# Altium integrated library Newport Power Mgt DC-DC Converter.IntLib: 312 symbols (part 5 of 5)
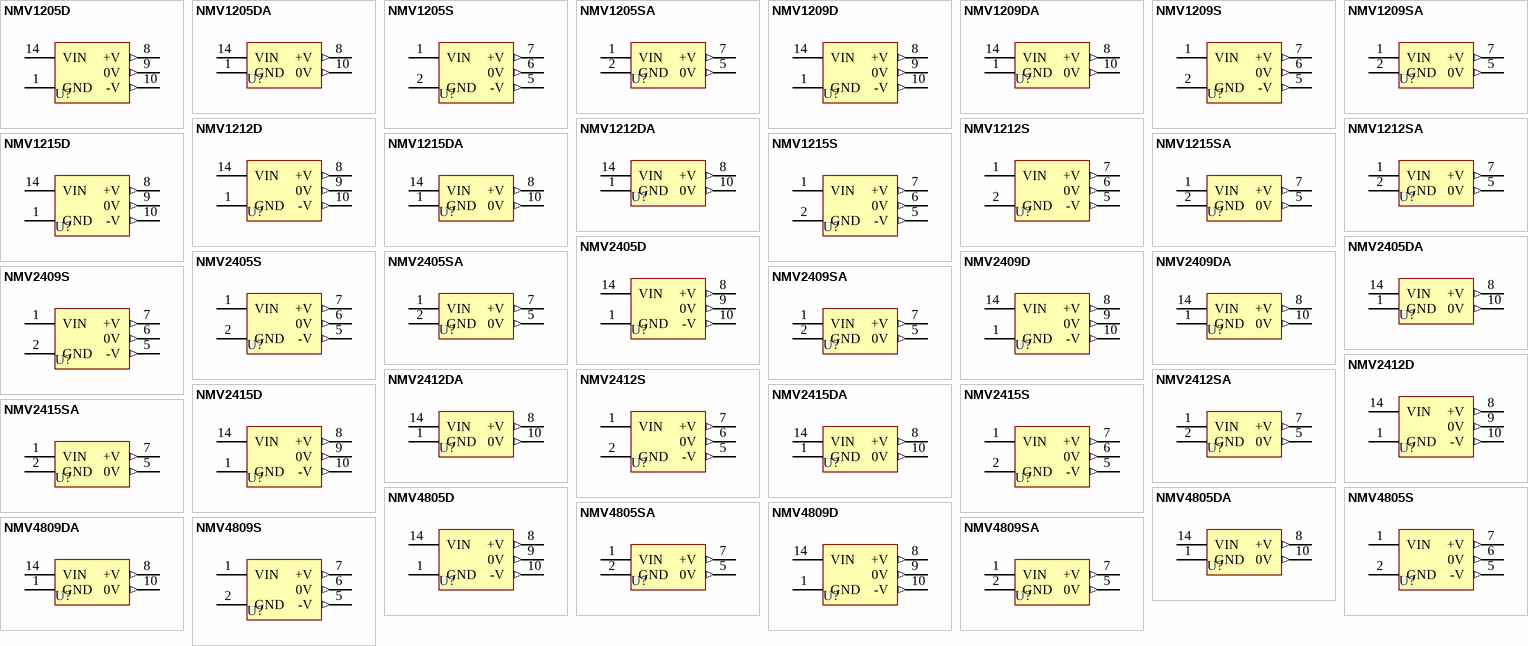
[diagram p11: symbols NMV1205D to NMV4809SA]

## NMV1215DA
designator U?
3kVDC Isolated 1W Single Output; Note: Pin 7 is No Internal Connection (NC) pin and is not drawn. Pins 2-6, 9, 12 and 13 are not present.; Published: 8-Jun-2000; LatestRevisionDate: 17-Jul-2002; LatestRevisionNote: PCB footprint, 'DIP-P5(14)/X1.2' replaced; Re-released for DXP Platform.; DatasheetVersion: Jul-1996; PackageVersion: 1996; PackageReference: NPDIP14D1; Publisher: Altium Limited; PackageDescription: DIP; 14 Rectangular pins (9 Absent); Row Space 7.62 mm; Pitch 2.54 mm; ComponentLink1Description: Manufacturer Link; ComponentLink1URL: http://www.dc-dc.com/; ComponentLink2Description: Datasheet; ComponentLink2URL: http://www.cd4power.com/data/power/ncl/ndc_nmv_3.pdf
footprint NPDIP14D1 (DIP; 14 Rectangular pins (9 Absent); Row Space 7.62 mm; Pitch 2.54 mm)
pins: 1 GND (power), 8 +V (out), 10 0V (out), 14 VIN (power)

## NMV1215S
designator U?
3kVDC Isolated 1W Dual Output; Note: Pins 3 and 4 are not present.; Published: 8-Jun-2000; LatestRevisionDate: 17-Jul-2002; LatestRevisionNote: Re-released for DXP Platform.; DatasheetVersion: Jul-1996; PackageVersion: 1996; PackageReference: NPSIP7D7; Publisher: Altium Limited; PackageDescription: SIP; 7 Leads (2 Absent); Body 19.5 x 6 mm (LxW typ); Pitch 2.54 mm; ComponentLink1Description: Manufacturer Link; ComponentLink1URL: http://www.dc-dc.com/; ComponentLink2Description: Datasheet; ComponentLink2URL: http://www.cd4power.com/data/power/ncl/ndc_nmv_3.pdf
footprint NPSIP7D7 (SIP; 7 Leads (2 Absent); Body 19.5 x 6 mm (LxW typ); Pitch 2.54 mm)
pins: 1 VIN (power), 2 GND (power), 5 -V (out), 6 0V (out), 7 +V (out)

## NMV1215SA
designator U?
3kVDC Isolated 1W Single Output; Note: Pins 3, 4 and 6 are not present.; Published: 8-Jun-2000; LatestRevisionDate: 17-Jul-2002; LatestRevisionNote: Re-released for DXP Platform.; DatasheetVersion: Jul-1996; PackageVersion: 1996; PackageReference: NPSIP7C5; Publisher: Altium Limited; PackageDescription: SIP; 7 Leads (3 Absent); Body 19.5 x 6 mm (LxW typ); Pitch 2.54 mm; ComponentLink1Description: Manufacturer Link; ComponentLink1URL: http://www.dc-dc.com/; ComponentLink2Description: Datasheet; ComponentLink2URL: http://www.cd4power.com/data/power/ncl/ndc_nmv_3.pdf
footprint NPSIP7C5 (SIP; 7 Leads (3 Absent); Body 19.5 x 6 mm (LxW typ); Pitch 2.54 mm)
pins: 1 VIN (power), 2 GND (power), 5 0V (out), 7 +V (out)

## NMV2405D
designator U?
3kVDC Isolated 1W Dual Output; Note: Pin 7 is No Internal Connection (NC) pin and is not drawn. Pins 2-6, 11, 12 and 13 are not present.; Published: 8-Jun-2000; LatestRevisionDate: 17-Jul-2002; LatestRevisionNote: Re-released for DXP Platform.; DatasheetVersion: Jul-1996; PackageVersion: 1996; PackageReference: NPDIP14E3; Publisher: Altium Limited; PackageDescription: DIP; 14 Rectangular pins (8 Absent); Row Space 7.62 mm; Pitch 2.54 mm; ComponentLink1Description: Manufacturer Link; ComponentLink1URL: http://www.dc-dc.com/; ComponentLink2Description: Datasheet; ComponentLink2URL: http://www.cd4power.com/data/power/ncl/ndc_nmv2_3.pdf
footprint NPDIP14E3 (DIP; 14 Rectangular pins (8 Absent); Row Space 7.62 mm; Pitch 2.54 mm)
pins: 1 GND (power), 8 +V (out), 9 0V (out), 10 -V (out), 14 VIN (power)

## NMV2405DA
designator U?
3kVDC Isolated 1W Single Output; Note: Pin 7 is No Internal Connection (NC) pin and is not drawn. Pins 2-6, 9, 12 and 13 are not present.; Published: 8-Jun-2000; LatestRevisionDate: 17-Jul-2002; LatestRevisionNote: PCB footprint, 'DIP-P5(14)/X1.2' replaced; Re-released for DXP Platform.; DatasheetVersion: Jul-1996; PackageVersion: 1996; PackageReference: NPDIP14D1; Publisher: Altium Limited; PackageDescription: DIP; 14 Rectangular pins (9 Absent); Row Space 7.62 mm; Pitch 2.54 mm; ComponentLink1Description: Manufacturer Link; ComponentLink1URL: http://www.dc-dc.com/; ComponentLink2Description: Datasheet; ComponentLink2URL: http://www.cd4power.com/data/power/ncl/ndc_nmv2_3.pdf
footprint NPDIP14D1 (DIP; 14 Rectangular pins (9 Absent); Row Space 7.62 mm; Pitch 2.54 mm)
pins: 1 GND (power), 8 +V (out), 10 0V (out), 14 VIN (power)

## NMV2405S
designator U?
3kVDC Isolated 1W Dual Output; Note: Pins 3 and 4 are not present.; Published: 8-Jun-2000; LatestRevisionDate: 17-Jul-2002; LatestRevisionNote: Re-released for DXP Platform.; DatasheetVersion: Jul-1996; PackageVersion: 1996; PackageReference: NPSIP7D7; Publisher: Altium Limited; PackageDescription: SIP; 7 Leads (2 Absent); Body 19.5 x 6 mm (LxW typ); Pitch 2.54 mm; ComponentLink1Description: Manufacturer Link; ComponentLink1URL: http://www.dc-dc.com/; ComponentLink2Description: Datasheet; ComponentLink2URL: http://www.cd4power.com/data/power/ncl/ndc_nmv2_3.pdf
footprint NPSIP7D7 (SIP; 7 Leads (2 Absent); Body 19.5 x 6 mm (LxW typ); Pitch 2.54 mm)
pins: 1 VIN (power), 2 GND (power), 5 -V (out), 6 0V (out), 7 +V (out)

## NMV2405SA
designator U?
3kVDC Isolated 1W Single Output; Note: Pins 3, 4 and 6 are not present.; Published: 8-Jun-2000; LatestRevisionDate: 17-Jul-2002; LatestRevisionNote: Re-released for DXP Platform.; DatasheetVersion: Jul-1996; PackageVersion: 1996; PackageReference: NPSIP7C5; Publisher: Altium Limited; PackageDescription: SIP; 7 Leads (3 Absent); Body 19.5 x 6 mm (LxW typ); Pitch 2.54 mm; ComponentLink1Description: Manufacturer Link; ComponentLink1URL: http://www.dc-dc.com/; ComponentLink2Description: Datasheet; ComponentLink2URL: http://www.cd4power.com/data/power/ncl/ndc_nmv2_3.pdf
footprint NPSIP7C5 (SIP; 7 Leads (3 Absent); Body 19.5 x 6 mm (LxW typ); Pitch 2.54 mm)
pins: 1 VIN (power), 2 GND (power), 5 0V (out), 7 +V (out)

## NMV2409D
designator U?
3kVDC Isolated 1W Dual Output; Note: Pin 7 is No Internal Connection (NC) pin and is not drawn. Pins 2-6, 11, 12 and 13 are not present.; Published: 8-Jun-2000; LatestRevisionDate: 17-Jul-2002; LatestRevisionNote: Re-released for DXP Platform.; DatasheetVersion: Jul-1996; PackageVersion: 1996; PackageReference: NPDIP14E3; Publisher: Altium Limited; PackageDescription: DIP; 14 Rectangular pins (8 Absent); Row Space 7.62 mm; Pitch 2.54 mm; ComponentLink1Description: Manufacturer Link; ComponentLink1URL: http://www.dc-dc.com/; ComponentLink2Description: Datasheet; ComponentLink2URL: http://www.cd4power.com/data/power/ncl/ndc_nmv2_3.pdf
footprint NPDIP14E3 (DIP; 14 Rectangular pins (8 Absent); Row Space 7.62 mm; Pitch 2.54 mm)
pins: 1 GND (power), 8 +V (out), 9 0V (out), 10 -V (out), 14 VIN (power)

## NMV2409DA
designator U?
3kVDC Isolated 1W Single Output; Note: Pin 7 is No Internal Connection (NC) pin and is not drawn. Pins 2-6, 9, 12 and 13 are not present.; Published: 8-Jun-2000; LatestRevisionDate: 17-Jul-2002; LatestRevisionNote: PCB footprint, 'DIP-P5(14)/X1.2' replaced; Re-released for DXP Platform.; DatasheetVersion: Jul-1996; PackageVersion: 1996; PackageReference: NPDIP14D1; Publisher: Altium Limited; PackageDescription: DIP; 14 Rectangular pins (9 Absent); Row Space 7.62 mm; Pitch 2.54 mm; ComponentLink1Description: Manufacturer Link; ComponentLink1URL: http://www.dc-dc.com/; ComponentLink2Description: Datasheet; ComponentLink2URL: http://www.cd4power.com/data/power/ncl/ndc_nmv2_3.pdf
footprint NPDIP14D1 (DIP; 14 Rectangular pins (9 Absent); Row Space 7.62 mm; Pitch 2.54 mm)
pins: 1 GND (power), 8 +V (out), 10 0V (out), 14 VIN (power)

## NMV2409S
designator U?
3kVDC Isolated 1W Dual Output; Note: Pins 3 and 4 are not present.; Published: 8-Jun-2000; LatestRevisionDate: 17-Jul-2002; LatestRevisionNote: Re-released for DXP Platform.; DatasheetVersion: Jul-1996; PackageVersion: 1996; PackageReference: NPSIP7D7; Publisher: Altium Limited; PackageDescription: SIP; 7 Leads (2 Absent); Body 19.5 x 6 mm (LxW typ); Pitch 2.54 mm; ComponentLink1Description: Manufacturer Link; ComponentLink1URL: http://www.dc-dc.com/; ComponentLink2Description: Datasheet; ComponentLink2URL: http://www.cd4power.com/data/power/ncl/ndc_nmv2_3.pdf
footprint NPSIP7D7 (SIP; 7 Leads (2 Absent); Body 19.5 x 6 mm (LxW typ); Pitch 2.54 mm)
pins: 1 VIN (power), 2 GND (power), 5 -V (out), 6 0V (out), 7 +V (out)

## NMV2409SA
designator U?
3kVDC Isolated 1W Single Output; Note: Pins 3, 4 and 6 are not present.; Published: 8-Jun-2000; LatestRevisionDate: 17-Jul-2002; LatestRevisionNote: Re-released for DXP Platform.; DatasheetVersion: Jul-1996; PackageVersion: 1996; PackageReference: NPSIP7C5; Publisher: Altium Limited; PackageDescription: SIP; 7 Leads (3 Absent); Body 19.5 x 6 mm (LxW typ); Pitch 2.54 mm; ComponentLink1Description: Manufacturer Link; ComponentLink1URL: http://www.dc-dc.com/; ComponentLink2Description: Datasheet; ComponentLink2URL: http://www.cd4power.com/data/power/ncl/ndc_nmv2_3.pdf
footprint NPSIP7C5 (SIP; 7 Leads (3 Absent); Body 19.5 x 6 mm (LxW typ); Pitch 2.54 mm)
pins: 1 VIN (power), 2 GND (power), 5 0V (out), 7 +V (out)

## NMV2412D
designator U?
3kVDC Isolated 1W Dual Output; Note: Pin 7 is No Internal Connection (NC) pin and is not drawn. Pins 2-6, 11, 12 and 13 are not present.; Published: 8-Jun-2000; LatestRevisionDate: 17-Jul-2002; LatestRevisionNote: Re-released for DXP Platform.; DatasheetVersion: Jul-1996; PackageVersion: 1996; PackageReference: NPDIP14E3; Publisher: Altium Limited; PackageDescription: DIP; 14 Rectangular pins (8 Absent); Row Space 7.62 mm; Pitch 2.54 mm; ComponentLink1Description: Manufacturer Link; ComponentLink1URL: http://www.dc-dc.com/; ComponentLink2Description: Datasheet; ComponentLink2URL: http://www.cd4power.com/data/power/ncl/ndc_nmv2_3.pdf
footprint NPDIP14E3 (DIP; 14 Rectangular pins (8 Absent); Row Space 7.62 mm; Pitch 2.54 mm)
pins: 1 GND (power), 8 +V (out), 9 0V (out), 10 -V (out), 14 VIN (power)

## NMV2412DA
designator U?
3kVDC Isolated 1W Single Output; Note: Pin 7 is No Internal Connection (NC) pin and is not drawn. Pins 2-6, 9, 12 and 13 are not present.; Published: 8-Jun-2000; LatestRevisionDate: 17-Jul-2002; LatestRevisionNote: PCB footprint, 'DIP-P5(14)/X1.2' replaced; Re-released for DXP Platform.; DatasheetVersion: Jul-1996; PackageVersion: 1996; PackageReference: NPDIP14D1; Publisher: Altium Limited; PackageDescription: DIP; 14 Rectangular pins (9 Absent); Row Space 7.62 mm; Pitch 2.54 mm; ComponentLink1Description: Manufacturer Link; ComponentLink1URL: http://www.dc-dc.com/; ComponentLink2Description: Datasheet; ComponentLink2URL: http://www.cd4power.com/data/power/ncl/ndc_nmv2_3.pdf
footprint NPDIP14D1 (DIP; 14 Rectangular pins (9 Absent); Row Space 7.62 mm; Pitch 2.54 mm)
pins: 1 GND (power), 8 +V (out), 10 0V (out), 14 VIN (power)

## NMV2412S
designator U?
3kVDC Isolated 1W Dual Output; Note: Pins 3 and 4 are not present.; Published: 8-Jun-2000; LatestRevisionDate: 17-Jul-2002; LatestRevisionNote: Re-released for DXP Platform.; DatasheetVersion: Jul-1996; PackageVersion: 1996; PackageReference: NPSIP7D7; Publisher: Altium Limited; PackageDescription: SIP; 7 Leads (2 Absent); Body 19.5 x 6 mm (LxW typ); Pitch 2.54 mm; ComponentLink1Description: Manufacturer Link; ComponentLink1URL: http://www.dc-dc.com/; ComponentLink2Description: Datasheet; ComponentLink2URL: http://www.cd4power.com/data/power/ncl/ndc_nmv2_3.pdf
footprint NPSIP7D7 (SIP; 7 Leads (2 Absent); Body 19.5 x 6 mm (LxW typ); Pitch 2.54 mm)
pins: 1 VIN (power), 2 GND (power), 5 -V (out), 6 0V (out), 7 +V (out)

## NMV2412SA
designator U?
3kVDC Isolated 1W Single Output; Note: Pins 3, 4 and 6 are not present.; Published: 8-Jun-2000; LatestRevisionDate: 17-Jul-2002; LatestRevisionNote: Re-released for DXP Platform.; DatasheetVersion: Jul-1996; PackageVersion: 1996; PackageReference: NPSIP7C5; Publisher: Altium Limited; PackageDescription: SIP; 7 Leads (3 Absent); Body 19.5 x 6 mm (LxW typ); Pitch 2.54 mm; ComponentLink1Description: Manufacturer Link; ComponentLink1URL: http://www.dc-dc.com/; ComponentLink2Description: Datasheet; ComponentLink2URL: http://www.cd4power.com/data/power/ncl/ndc_nmv2_3.pdf
footprint NPSIP7C5 (SIP; 7 Leads (3 Absent); Body 19.5 x 6 mm (LxW typ); Pitch 2.54 mm)
pins: 1 VIN (power), 2 GND (power), 5 0V (out), 7 +V (out)

## NMV2415D
designator U?
3kVDC Isolated 1W Dual Output; Note: Pin 7 is No Internal Connection (NC) pin and is not drawn. Pins 2-6, 11, 12 and 13 are not present.; Published: 8-Jun-2000; LatestRevisionDate: 17-Jul-2002; LatestRevisionNote: Re-released for DXP Platform.; DatasheetVersion: Jul-1996; PackageVersion: 1996; PackageReference: NPDIP14E3; Publisher: Altium Limited; PackageDescription: DIP; 14 Rectangular pins (8 Absent); Row Space 7.62 mm; Pitch 2.54 mm; ComponentLink1Description: Manufacturer Link; ComponentLink1URL: http://www.dc-dc.com/; ComponentLink2Description: Datasheet; ComponentLink2URL: http://www.cd4power.com/data/power/ncl/ndc_nmv2_3.pdf
footprint NPDIP14E3 (DIP; 14 Rectangular pins (8 Absent); Row Space 7.62 mm; Pitch 2.54 mm)
pins: 1 GND (power), 8 +V (out), 9 0V (out), 10 -V (out), 14 VIN (power)

## NMV2415DA
designator U?
3kVDC Isolated 1W Single Output; Note: Pin 7 is No Internal Connection (NC) pin and is not drawn. Pins 2-6, 9, 12 and 13 are not present.; Published: 8-Jun-2000; LatestRevisionDate: 17-Jul-2002; LatestRevisionNote: PCB footprint, 'DIP-P5(14)/X1.2' replaced; Re-released for DXP Platform.; DatasheetVersion: Jul-1996; PackageVersion: 1996; PackageReference: NPDIP14D1; Publisher: Altium Limited; PackageDescription: DIP; 14 Rectangular pins (9 Absent); Row Space 7.62 mm; Pitch 2.54 mm; ComponentLink1Description: Manufacturer Link; ComponentLink1URL: http://www.dc-dc.com/; ComponentLink2Description: Datasheet; ComponentLink2URL: http://www.cd4power.com/data/power/ncl/ndc_nmv2_3.pdf
footprint NPDIP14D1 (DIP; 14 Rectangular pins (9 Absent); Row Space 7.62 mm; Pitch 2.54 mm)
pins: 1 GND (power), 8 +V (out), 10 0V (out), 14 VIN (power)

## NMV2415S
designator U?
3kVDC Isolated 1W Dual Output; Note: Pins 3 and 4 are not present.; Published: 8-Jun-2000; LatestRevisionDate: 17-Jul-2002; LatestRevisionNote: Re-released for DXP Platform.; DatasheetVersion: Jul-1996; PackageVersion: 1996; PackageReference: NPSIP7D7; Publisher: Altium Limited; PackageDescription: SIP; 7 Leads (2 Absent); Body 19.5 x 6 mm (LxW typ); Pitch 2.54 mm; ComponentLink1Description: Manufacturer Link; ComponentLink1URL: http://www.dc-dc.com/; ComponentLink2Description: Datasheet; ComponentLink2URL: http://www.cd4power.com/data/power/ncl/ndc_nmv2_3.pdf
footprint NPSIP7D7 (SIP; 7 Leads (2 Absent); Body 19.5 x 6 mm (LxW typ); Pitch 2.54 mm)
pins: 1 VIN (power), 2 GND (power), 5 -V (out), 6 0V (out), 7 +V (out)

## NMV2415SA
designator U?
3kVDC Isolated 1W Single Output; Note: Pins 3, 4 and 6 are not present.; Published: 8-Jun-2000; LatestRevisionDate: 17-Jul-2002; LatestRevisionNote: Re-released for DXP Platform.; DatasheetVersion: Jul-1996; PackageVersion: 1996; PackageReference: NPSIP7C5; Publisher: Altium Limited; PackageDescription: SIP; 7 Leads (3 Absent); Body 19.5 x 6 mm (LxW typ); Pitch 2.54 mm; ComponentLink1Description: Manufacturer Link; ComponentLink1URL: http://www.dc-dc.com/; ComponentLink2Description: Datasheet; ComponentLink2URL: http://www.cd4power.com/data/power/ncl/ndc_nmv2_3.pdf
footprint NPSIP7C5 (SIP; 7 Leads (3 Absent); Body 19.5 x 6 mm (LxW typ); Pitch 2.54 mm)
pins: 1 VIN (power), 2 GND (power), 5 0V (out), 7 +V (out)

## NMV4805D
designator U?
3kVDC Isolated 1W Dual Output; Note: Pin 7 is No Internal Connection (NC) pin and is not drawn. Pins 2-6, 11, 12 and 13 are not present.; Published: 8-Jun-2000; LatestRevisionDate: 17-Jul-2002; LatestRevisionNote: Re-released for DXP Platform.; DatasheetVersion: Jul-1996; PackageVersion: 1996; PackageReference: NPDIP14E4; Publisher: Altium Limited; PackageDescription: DIP; 14 Rectangular pins (8 Absent); Row Space 7.62 mm; Pitch 2.54 mm; ComponentLink1Description: Manufacturer Link; ComponentLink1URL: http://www.dc-dc.com/; ComponentLink2Description: Datasheet; ComponentLink2URL: http://www.cd4power.com/data/power/ncl/ndc_nmv2_3.pdf
footprint NPDIP14E4 (DIP; 14 Rectangular pins (8 Absent); Row Space 7.62 mm; Pitch 2.54 mm)
pins: 1 GND (power), 8 +V (out), 9 0V (out), 10 -V (out), 14 VIN (power)

## NMV4805DA
designator U?
3kVDC Isolated 1W Single Output; Note: Pin 7 is No Internal Connection (NC) pin and is not drawn. Pins 2-6, 9, 12 and 13 are not present.; Published: 8-Jun-2000; LatestRevisionDate: 17-Jul-2002; LatestRevisionNote: PCB footprint, 'DIP-P5(14)/X1.2' replaced; Re-released for DXP Platform.; DatasheetVersion: Jul-1996; PackageVersion: 1996; PackageReference: NPDIP14D2; Publisher: Altium Limited; PackageDescription: DIP; 14 Rectangular pins (9 Absent); Row Space 7.62 mm; Pitch 2.54 mm; ComponentLink1Description: Manufacturer Link; ComponentLink1URL: http://www.dc-dc.com/; ComponentLink2Description: Datasheet; ComponentLink2URL: http://www.cd4power.com/data/power/ncl/ndc_nmv2_3.pdf
footprint NPDIP14D2 (DIP; 14 Rectangular pins (9 Absent); Row Space 7.62 mm; Pitch 2.54 mm)
pins: 1 GND (power), 8 +V (out), 10 0V (out), 14 VIN (power)

## NMV4805S
designator U?
3kVDC Isolated 1W Dual Output; Note: Pins 3 and 4 are not present.; Published: 8-Jun-2000; LatestRevisionDate: 17-Jul-2002; LatestRevisionNote: Re-released for DXP Platform.; DatasheetVersion: Jul-1996; PackageVersion: 1996; PackageReference: NPSIP7D8; Publisher: Altium Limited; PackageDescription: SIP; 7 Leads (2 Absent); Body 19.5 x 7.5 mm (LxW typ); Pitch 2.54 mm; ComponentLink1Description: Manufacturer Link; ComponentLink1URL: http://www.dc-dc.com/; ComponentLink2Description: Datasheet; ComponentLink2URL: http://www.cd4power.com/data/power/ncl/ndc_nmv2_3.pdf
footprint NPSIP7D8 (SIP; 7 Leads (2 Absent); Body 19.5 x 7.5 mm (LxW typ); Pitch 2.54 mm)
pins: 1 VIN (power), 2 GND (power), 5 -V (out), 6 0V (out), 7 +V (out)

## NMV4805SA
designator U?
3kVDC Isolated 1W Single Output; Note: Pins 3, 4 and 6 are not present.; Published: 8-Jun-2000; LatestRevisionDate: 17-Jul-2002; LatestRevisionNote: Re-released for DXP Platform.; DatasheetVersion: Jul-1996; PackageVersion: 1996; PackageReference: NPSIP7C6; Publisher: Altium Limited; PackageDescription: SIP; 7 Leads (3 Absent); Body 19.5 x 7.5 mm (LxW typ); Pitch 2.54 mm; ComponentLink1Description: Manufacturer Link; ComponentLink1URL: http://www.dc-dc.com/; ComponentLink2Description: Datasheet; ComponentLink2URL: http://www.cd4power.com/data/power/ncl/ndc_nmv2_3.pdf
footprint NPSIP7C6 (SIP; 7 Leads (3 Absent); Body 19.5 x 7.5 mm (LxW typ); Pitch 2.54 mm)
pins: 1 VIN (power), 2 GND (power), 5 0V (out), 7 +V (out)

## NMV4809D
designator U?
3kVDC Isolated 1W Dual Output; Note: Pin 7 is No Internal Connection (NC) pin and is not drawn. Pins 2-6, 11, 12 and 13 are not present.; Published: 8-Jun-2000; LatestRevisionDate: 17-Jul-2002; LatestRevisionNote: Re-released for DXP Platform.; DatasheetVersion: Jul-1996; PackageVersion: 1996; PackageReference: NPDIP14E4; Publisher: Altium Limited; PackageDescription: DIP; 14 Rectangular pins (8 Absent); Row Space 7.62 mm; Pitch 2.54 mm; ComponentLink1Description: Manufacturer Link; ComponentLink1URL: http://www.dc-dc.com/; ComponentLink2Description: Datasheet; ComponentLink2URL: http://www.cd4power.com/data/power/ncl/ndc_nmv2_3.pdf
footprint NPDIP14E4 (DIP; 14 Rectangular pins (8 Absent); Row Space 7.62 mm; Pitch 2.54 mm)
pins: 1 GND (power), 8 +V (out), 9 0V (out), 10 -V (out), 14 VIN (power)

## NMV4809DA
designator U?
3kVDC Isolated 1W Single Output; Note: Pin 7 is No Internal Connection (NC) pin and is not drawn. Pins 2-6, 9, 12 and 13 are not present.; Published: 8-Jun-2000; LatestRevisionDate: 17-Jul-2002; LatestRevisionNote: PCB footprint, 'DIP-P5(14)/X1.2' replaced; Re-released for DXP Platform.; DatasheetVersion: Jul-1996; PackageVersion: 1996; PackageReference: NPDIP14D2; Publisher: Altium Limited; PackageDescription: DIP; 14 Rectangular pins (9 Absent); Row Space 7.62 mm; Pitch 2.54 mm; ComponentLink1Description: Manufacturer Link; ComponentLink1URL: http://www.dc-dc.com/; ComponentLink2Description: Datasheet; ComponentLink2URL: http://www.cd4power.com/data/power/ncl/ndc_nmv2_3.pdf
footprint NPDIP14D2 (DIP; 14 Rectangular pins (9 Absent); Row Space 7.62 mm; Pitch 2.54 mm)
pins: 1 GND (power), 8 +V (out), 10 0V (out), 14 VIN (power)

## NMV4809S
designator U?
3kVDC Isolated 1W Dual Output; Note: Pins 3 and 4 are not present.; Published: 8-Jun-2000; LatestRevisionDate: 17-Jul-2002; LatestRevisionNote: Re-released for DXP Platform.; DatasheetVersion: Jul-1996; PackageVersion: 1996; PackageReference: NPSIP7D8; Publisher: Altium Limited; PackageDescription: SIP; 7 Leads (2 Absent); Body 19.5 x 7.5 mm (LxW typ); Pitch 2.54 mm; ComponentLink1Description: Manufacturer Link; ComponentLink1URL: http://www.dc-dc.com/; ComponentLink2Description: Datasheet; ComponentLink2URL: http://www.cd4power.com/data/power/ncl/ndc_nmv2_3.pdf
footprint NPSIP7D8 (SIP; 7 Leads (2 Absent); Body 19.5 x 7.5 mm (LxW typ); Pitch 2.54 mm)
pins: 1 VIN (power), 2 GND (power), 5 -V (out), 6 0V (out), 7 +V (out)

## NMV4809SA
designator U?
3kVDC Isolated 1W Single Output; Note: Pins 3, 4 and 6 are not present.; Published: 8-Jun-2000; LatestRevisionDate: 17-Jul-2002; LatestRevisionNote: Re-released for DXP Platform.; DatasheetVersion: Jul-1996; PackageVersion: 1996; PackageReference: NPSIP7C6; Publisher: Altium Limited; PackageDescription: SIP; 7 Leads (3 Absent); Body 19.5 x 7.5 mm (LxW typ); Pitch 2.54 mm; ComponentLink1Description: Manufacturer Link; ComponentLink1URL: http://www.dc-dc.com/; ComponentLink2Description: Datasheet; ComponentLink2URL: http://www.cd4power.com/data/power/ncl/ndc_nmv2_3.pdf
footprint NPSIP7C6 (SIP; 7 Leads (3 Absent); Body 19.5 x 7.5 mm (LxW typ); Pitch 2.54 mm)
pins: 1 VIN (power), 2 GND (power), 5 0V (out), 7 +V (out)

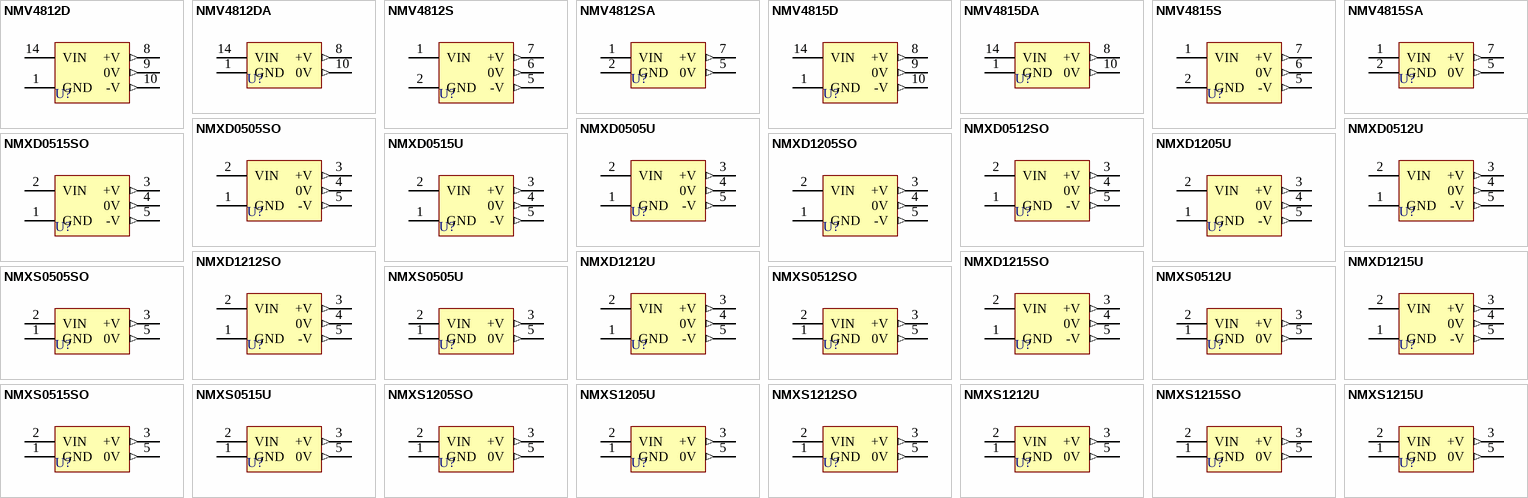
[diagram p7: symbols NMV4812D to NMXS1215U]

## NMV4812D
designator U?
3kVDC Isolated 1W Dual Output; Note: Pin 7 is No Internal Connection (NC) pin and is not drawn. Pins 2-6, 11, 12 and 13 are not present.; Published: 8-Jun-2000; LatestRevisionDate: 17-Jul-2002; LatestRevisionNote: Re-released for DXP Platform.; DatasheetVersion: Jul-1996; PackageVersion: 1996; PackageReference: NPDIP14E4; Publisher: Altium Limited; PackageDescription: DIP; 14 Rectangular pins (8 Absent); Row Space 7.62 mm; Pitch 2.54 mm; ComponentLink1Description: Manufacturer Link; ComponentLink1URL: http://www.dc-dc.com/; ComponentLink2Description: Datasheet; ComponentLink2URL: http://www.cd4power.com/data/power/ncl/ndc_nmv2_3.pdf
footprint NPDIP14E4 (DIP; 14 Rectangular pins (8 Absent); Row Space 7.62 mm; Pitch 2.54 mm)
pins: 1 GND (power), 8 +V (out), 9 0V (out), 10 -V (out), 14 VIN (power)

## NMV4812DA
designator U?
3kVDC Isolated 1W Single Output; Note: Pin 7 is No Internal Connection (NC) pin and is not drawn. Pins 2-6, 9, 12 and 13 are not present.; Published: 8-Jun-2000; LatestRevisionDate: 17-Jul-2002; LatestRevisionNote: PCB footprint, 'DIP-P5(14)/X1.2' replaced; Re-released for DXP Platform.; DatasheetVersion: Jul-1996; PackageVersion: 1996; PackageReference: NPDIP14D2; Publisher: Altium Limited; PackageDescription: DIP; 14 Rectangular pins (9 Absent); Row Space 7.62 mm; Pitch 2.54 mm; ComponentLink1Description: Manufacturer Link; ComponentLink1URL: http://www.dc-dc.com/; ComponentLink2Description: Datasheet; ComponentLink2URL: http://www.cd4power.com/data/power/ncl/ndc_nmv2_3.pdf
footprint NPDIP14D2 (DIP; 14 Rectangular pins (9 Absent); Row Space 7.62 mm; Pitch 2.54 mm)
pins: 1 GND (power), 8 +V (out), 10 0V (out), 14 VIN (power)

## NMV4812S
designator U?
3kVDC Isolated 1W Dual Output; Note: Pins 3 and 4 are not present.; Published: 8-Jun-2000; LatestRevisionDate: 17-Jul-2002; LatestRevisionNote: Re-released for DXP Platform.; DatasheetVersion: Jul-1996; PackageVersion: 1996; PackageReference: NPSIP7D8; Publisher: Altium Limited; PackageDescription: SIP; 7 Leads (2 Absent); Body 19.5 x 7.5 mm (LxW typ); Pitch 2.54 mm; ComponentLink1Description: Manufacturer Link; ComponentLink1URL: http://www.dc-dc.com/; ComponentLink2Description: Datasheet; ComponentLink2URL: http://www.cd4power.com/data/power/ncl/ndc_nmv2_3.pdf
footprint NPSIP7D8 (SIP; 7 Leads (2 Absent); Body 19.5 x 7.5 mm (LxW typ); Pitch 2.54 mm)
pins: 1 VIN (power), 2 GND (power), 5 -V (out), 6 0V (out), 7 +V (out)

## NMV4812SA
designator U?
3kVDC Isolated 1W Single Output; Note: Pins 3, 4 and 6 are not present.; Published: 8-Jun-2000; LatestRevisionDate: 17-Jul-2002; LatestRevisionNote: Re-released for DXP Platform.; DatasheetVersion: Jul-1996; PackageVersion: 1996; PackageReference: NPSIP7C6; Publisher: Altium Limited; PackageDescription: SIP; 7 Leads (3 Absent); Body 19.5 x 7.5 mm (LxW typ); Pitch 2.54 mm; ComponentLink1Description: Manufacturer Link; ComponentLink1URL: http://www.dc-dc.com/; ComponentLink2Description: Datasheet; ComponentLink2URL: http://www.cd4power.com/data/power/ncl/ndc_nmv2_3.pdf
footprint NPSIP7C6 (SIP; 7 Leads (3 Absent); Body 19.5 x 7.5 mm (LxW typ); Pitch 2.54 mm)
pins: 1 VIN (power), 2 GND (power), 5 0V (out), 7 +V (out)

## NMV4815D
designator U?
3kVDC Isolated 1W Dual Output; Note: Pin 7 is No Internal Connection (NC) pin and is not drawn. Pins 2-6, 11, 12 and 13 are not present.; Published: 8-Jun-2000; LatestRevisionDate: 17-Jul-2002; LatestRevisionNote: Re-released for DXP Platform.; DatasheetVersion: Jul-1996; PackageVersion: 1996; PackageReference: NPDIP14E4; Publisher: Altium Limited; PackageDescription: DIP; 14 Rectangular pins (8 Absent); Row Space 7.62 mm; Pitch 2.54 mm; ComponentLink1Description: Manufacturer Link; ComponentLink1URL: http://www.dc-dc.com/; ComponentLink2Description: Datasheet; ComponentLink2URL: http://www.cd4power.com/data/power/ncl/ndc_nmv2_3.pdf
footprint NPDIP14E4 (DIP; 14 Rectangular pins (8 Absent); Row Space 7.62 mm; Pitch 2.54 mm)
pins: 1 GND (power), 8 +V (out), 9 0V (out), 10 -V (out), 14 VIN (power)

## NMV4815DA
designator U?
3kVDC Isolated 1W Single Output; Note: Pin 7 is No Internal Connection (NC) pin and is not drawn. Pins 2-6, 9, 12 and 13 are not present.; Published: 8-Jun-2000; LatestRevisionDate: 17-Jul-2002; LatestRevisionNote: PCB footprint, 'DIP-P5(14)/X1.2' replaced; Re-released for DXP Platform.; DatasheetVersion: Jul-1996; PackageVersion: 1996; PackageReference: NPDIP14D2; Publisher: Altium Limited; PackageDescription: DIP; 14 Rectangular pins (9 Absent); Row Space 7.62 mm; Pitch 2.54 mm; ComponentLink1Description: Manufacturer Link; ComponentLink1URL: http://www.dc-dc.com/; ComponentLink2Description: Datasheet; ComponentLink2URL: http://www.cd4power.com/data/power/ncl/ndc_nmv2_3.pdf
footprint NPDIP14D2 (DIP; 14 Rectangular pins (9 Absent); Row Space 7.62 mm; Pitch 2.54 mm)
pins: 1 GND (power), 8 +V (out), 10 0V (out), 14 VIN (power)

## NMV4815S
designator U?
3kVDC Isolated 1W Dual Output; Note: Pins 3 and 4 are not present.; Published: 8-Jun-2000; LatestRevisionDate: 17-Jul-2002; LatestRevisionNote: Re-released for DXP Platform.; DatasheetVersion: Jul-1996; PackageVersion: 1996; PackageReference: NPSIP7D8; Publisher: Altium Limited; PackageDescription: SIP; 7 Leads (2 Absent); Body 19.5 x 7.5 mm (LxW typ); Pitch 2.54 mm; ComponentLink1Description: Manufacturer Link; ComponentLink1URL: http://www.dc-dc.com/; ComponentLink2Description: Datasheet; ComponentLink2URL: http://www.cd4power.com/data/power/ncl/ndc_nmv2_3.pdf
footprint NPSIP7D8 (SIP; 7 Leads (2 Absent); Body 19.5 x 7.5 mm (LxW typ); Pitch 2.54 mm)
pins: 1 VIN (power), 2 GND (power), 5 -V (out), 6 0V (out), 7 +V (out)

## NMV4815SA
designator U?
3kVDC Isolated 1W Single Output; Note: Pins 3, 4 and 6 are not present.; Published: 8-Jun-2000; LatestRevisionDate: 17-Jul-2002; LatestRevisionNote: Re-released for DXP Platform.; DatasheetVersion: Jul-1996; PackageVersion: 1996; PackageReference: NPSIP7C6; Publisher: Altium Limited; PackageDescription: SIP; 7 Leads (3 Absent); Body 19.5 x 7.5 mm (LxW typ); Pitch 2.54 mm; ComponentLink1Description: Manufacturer Link; ComponentLink1URL: http://www.dc-dc.com/; ComponentLink2Description: Datasheet; ComponentLink2URL: http://www.cd4power.com/data/power/ncl/ndc_nmv2_3.pdf
footprint NPSIP7C6 (SIP; 7 Leads (3 Absent); Body 19.5 x 7.5 mm (LxW typ); Pitch 2.54 mm)
pins: 1 VIN (power), 2 GND (power), 5 0V (out), 7 +V (out)

## NMXD0505SO
designator U?
Isolated 5W Regulated Dual Output; Published: 8-Jun-2000; LatestRevisionDate: 17-Jul-2002; LatestRevisionNote: Re-released for DXP Platform.; DatasheetVersion: Jul-1996; PackageVersion: 1996; PackageReference: NPNMXSOD; Publisher: Altium Limited; PackageDescription: DIP; 18 Round Pins (13 Absent); Row Space 20.32 mm; Pitch 2.54 mm; ComponentLink1Description: Manufacturer Link; ComponentLink1URL: http://www.dc-dc.com/
footprint NPNMXSOD (DIP; 18 Round Pins (13 Absent); Row Space 20.32 mm; Pitch 2.54 mm)
pins: 1 GND (power), 2 VIN (power), 3 +V (out), 4 0V (out), 5 -V (out)

## NMXD0505U
designator U?
Isolated 5W Dual Output; Published: 8-Jun-2000; LatestRevisionDate: 17-Jul-2002; LatestRevisionNote: Re-released for DXP Platform.; DatasheetVersion: Jul-1996; PackageVersion: 1996; PackageReference: NPNMXUD; Publisher: Altium Limited; PackageDescription: DIP; 18 Round Pins (13 Absent); Row Space 20.32 mm; Pitch 2.54 mm; ComponentLink1Description: Manufacturer Link; ComponentLink1URL: http://www.dc-dc.com/
footprint NPNMXUD (DIP; 18 Round Pins (13 Absent); Row Space 20.32 mm; Pitch 2.54 mm)
pins: 1 GND (power), 2 VIN (power), 3 +V (out), 4 0V (out), 5 -V (out)

## NMXD0512SO
designator U?
Isolated 5W Regulated Dual Output; Published: 8-Jun-2000; LatestRevisionDate: 17-Jul-2002; LatestRevisionNote: Re-released for DXP Platform.; DatasheetVersion: Jul-1996; PackageVersion: 1996; PackageReference: NPNMXSOD; Publisher: Altium Limited; PackageDescription: DIP; 18 Round Pins (13 Absent); Row Space 20.32 mm; Pitch 2.54 mm; ComponentLink1Description: Manufacturer Link; ComponentLink1URL: http://www.dc-dc.com/
footprint NPNMXSOD (DIP; 18 Round Pins (13 Absent); Row Space 20.32 mm; Pitch 2.54 mm)
pins: 1 GND (power), 2 VIN (power), 3 +V (out), 4 0V (out), 5 -V (out)

## NMXD0512U
designator U?
Isolated 5W Dual Output; Published: 8-Jun-2000; LatestRevisionDate: 17-Jul-2002; LatestRevisionNote: Re-released for DXP Platform.; DatasheetVersion: Jul-1996; PackageVersion: 1996; PackageReference: NPNMXUD; Publisher: Altium Limited; PackageDescription: DIP; 18 Round Pins (13 Absent); Row Space 20.32 mm; Pitch 2.54 mm; ComponentLink1Description: Manufacturer Link; ComponentLink1URL: http://www.dc-dc.com/
footprint NPNMXUD (DIP; 18 Round Pins (13 Absent); Row Space 20.32 mm; Pitch 2.54 mm)
pins: 1 GND (power), 2 VIN (power), 3 +V (out), 4 0V (out), 5 -V (out)

## NMXD0515SO
designator U?
Isolated 5W Regulated Dual Output; Published: 8-Jun-2000; LatestRevisionDate: 17-Jul-2002; LatestRevisionNote: Re-released for DXP Platform.; DatasheetVersion: Jul-1996; PackageVersion: 1996; PackageReference: NPNMXSOD; Publisher: Altium Limited; PackageDescription: DIP; 18 Round Pins (13 Absent); Row Space 20.32 mm; Pitch 2.54 mm; ComponentLink1Description: Manufacturer Link; ComponentLink1URL: http://www.dc-dc.com/
footprint NPNMXSOD (DIP; 18 Round Pins (13 Absent); Row Space 20.32 mm; Pitch 2.54 mm)
pins: 1 GND (power), 2 VIN (power), 3 +V (out), 4 0V (out), 5 -V (out)

## NMXD0515U
designator U?
Isolated 5W Dual Output; Published: 8-Jun-2000; LatestRevisionDate: 17-Jul-2002; LatestRevisionNote: Re-released for DXP Platform.; DatasheetVersion: Jul-1996; PackageVersion: 1996; PackageReference: NPNMXUD; Publisher: Altium Limited; PackageDescription: DIP; 18 Round Pins (13 Absent); Row Space 20.32 mm; Pitch 2.54 mm; ComponentLink1Description: Manufacturer Link; ComponentLink1URL: http://www.dc-dc.com/
footprint NPNMXUD (DIP; 18 Round Pins (13 Absent); Row Space 20.32 mm; Pitch 2.54 mm)
pins: 1 GND (power), 2 VIN (power), 3 +V (out), 4 0V (out), 5 -V (out)

## NMXD1205SO
designator U?
Isolated 5W Regulated Dual Output; Published: 8-Jun-2000; LatestRevisionDate: 17-Jul-2002; LatestRevisionNote: Re-released for DXP Platform.; DatasheetVersion: Jul-1996; PackageVersion: 1996; PackageReference: NPNMXSOD; Publisher: Altium Limited; PackageDescription: DIP; 18 Round Pins (13 Absent); Row Space 20.32 mm; Pitch 2.54 mm; ComponentLink1Description: Manufacturer Link; ComponentLink1URL: http://www.dc-dc.com/
footprint NPNMXSOD (DIP; 18 Round Pins (13 Absent); Row Space 20.32 mm; Pitch 2.54 mm)
pins: 1 GND (power), 2 VIN (power), 3 +V (out), 4 0V (out), 5 -V (out)

## NMXD1205U
designator U?
Isolated 5W Dual Output; Published: 8-Jun-2000; LatestRevisionDate: 17-Jul-2002; LatestRevisionNote: Re-released for DXP Platform.; DatasheetVersion: Jul-1996; PackageVersion: 1996; PackageReference: NPNMXUD; Publisher: Altium Limited; PackageDescription: DIP; 18 Round Pins (13 Absent); Row Space 20.32 mm; Pitch 2.54 mm; ComponentLink1Description: Manufacturer Link; ComponentLink1URL: http://www.dc-dc.com/
footprint NPNMXUD (DIP; 18 Round Pins (13 Absent); Row Space 20.32 mm; Pitch 2.54 mm)
pins: 1 GND (power), 2 VIN (power), 3 +V (out), 4 0V (out), 5 -V (out)

## NMXD1212SO
designator U?
Isolated 5W Regulated Dual Output; Published: 8-Jun-2000; LatestRevisionDate: 17-Jul-2002; LatestRevisionNote: Re-released for DXP Platform.; DatasheetVersion: Jul-1996; PackageVersion: 1996; PackageReference: NPNMXSOD; Publisher: Altium Limited; PackageDescription: DIP; 18 Round Pins (13 Absent); Row Space 20.32 mm; Pitch 2.54 mm; ComponentLink1Description: Manufacturer Link; ComponentLink1URL: http://www.dc-dc.com/
footprint NPNMXSOD (DIP; 18 Round Pins (13 Absent); Row Space 20.32 mm; Pitch 2.54 mm)
pins: 1 GND (power), 2 VIN (power), 3 +V (out), 4 0V (out), 5 -V (out)

## NMXD1212U
designator U?
Isolated 5W Dual Output; Published: 8-Jun-2000; LatestRevisionDate: 17-Jul-2002; LatestRevisionNote: Re-released for DXP Platform.; DatasheetVersion: Jul-1996; PackageVersion: 1996; PackageReference: NPNMXUD; Publisher: Altium Limited; PackageDescription: DIP; 18 Round Pins (13 Absent); Row Space 20.32 mm; Pitch 2.54 mm; ComponentLink1Description: Manufacturer Link; ComponentLink1URL: http://www.dc-dc.com/
footprint NPNMXUD (DIP; 18 Round Pins (13 Absent); Row Space 20.32 mm; Pitch 2.54 mm)
pins: 1 GND (power), 2 VIN (power), 3 +V (out), 4 0V (out), 5 -V (out)

## NMXD1215SO
designator U?
Isolated 5W Regulated Dual Output; Published: 8-Jun-2000; LatestRevisionDate: 17-Jul-2002; LatestRevisionNote: Re-released for DXP Platform.; DatasheetVersion: Jul-1996; PackageVersion: 1996; PackageReference: NPNMXSOD; Publisher: Altium Limited; PackageDescription: DIP; 18 Round Pins (13 Absent); Row Space 20.32 mm; Pitch 2.54 mm; ComponentLink1Description: Manufacturer Link; ComponentLink1URL: http://www.dc-dc.com/
footprint NPNMXSOD (DIP; 18 Round Pins (13 Absent); Row Space 20.32 mm; Pitch 2.54 mm)
pins: 1 GND (power), 2 VIN (power), 3 +V (out), 4 0V (out), 5 -V (out)

## NMXD1215U
designator U?
Isolated 5W Dual Output; Published: 8-Jun-2000; LatestRevisionDate: 17-Jul-2002; LatestRevisionNote: Re-released for DXP Platform.; DatasheetVersion: Jul-1996; PackageVersion: 1996; PackageReference: NPNMXUD; Publisher: Altium Limited; PackageDescription: DIP; 18 Round Pins (13 Absent); Row Space 20.32 mm; Pitch 2.54 mm; ComponentLink1Description: Manufacturer Link; ComponentLink1URL: http://www.dc-dc.com/
footprint NPNMXUD (DIP; 18 Round Pins (13 Absent); Row Space 20.32 mm; Pitch 2.54 mm)
pins: 1 GND (power), 2 VIN (power), 3 +V (out), 4 0V (out), 5 -V (out)

## NMXS0505SO
designator U?
Isolated 5W Regulated Single Output; Note: Pin 4 is not present.; Published: 8-Jun-2000; LatestRevisionDate: 17-Jul-2002; LatestRevisionNote: PCB footprint, 'DIP-P4(18)/X2' replaced; Re-released for DXP Platform.; DatasheetVersion: Jul-1996; PackageVersion: 1996; PackageReference: NPNMXSOS; Publisher: Altium Limited; PackageDescription: DIP; 18 Round Pins (14 Absent); Row Space 20.32 mm; Pitch 2.54 mm; ComponentLink1Description: Manufacturer Link; ComponentLink1URL: http://www.dc-dc.com/
footprint NPNMXSOS (DIP; 18 Round Pins (14 Absent); Row Space 20.32 mm; Pitch 2.54 mm)
pins: 1 GND (power), 2 VIN (power), 3 +V (out), 5 0V (out)

## NMXS0505U
designator U?
Isolated 5W Single Output; Note: Pin 4 is not present.; Published: 8-Jun-2000; LatestRevisionDate: 17-Jul-2002; LatestRevisionNote: Re-released for DXP Platform.; DatasheetVersion: Jul-1996; PackageVersion: 1996; PackageReference: NPNMXUS; Publisher: Altium Limited; PackageDescription: DIP; 18 Round Pins (14 Absent); Row Space 20.32 mm; Pitch 2.54 mm; ComponentLink1Description: Manufacturer Link; ComponentLink1URL: http://www.dc-dc.com/
footprint NPNMXUS (DIP; 18 Round Pins (14 Absent); Row Space 20.32 mm; Pitch 2.54 mm)
pins: 1 GND (power), 2 VIN (power), 3 +V (out), 5 0V (out)

## NMXS0512SO
designator U?
Isolated 5W Regulated Single Output; Note: Pin 4 is not present.; Published: 8-Jun-2000; LatestRevisionDate: 17-Jul-2002; LatestRevisionNote: PCB footprint, 'DIP-P4(18)/X2' replaced; Re-released for DXP Platform.; DatasheetVersion: Jul-1996; PackageVersion: 1996; PackageReference: NPNMXSOS; Publisher: Altium Limited; PackageDescription: DIP; 18 Round Pins (14 Absent); Row Space 20.32 mm; Pitch 2.54 mm; ComponentLink1Description: Manufacturer Link; ComponentLink1URL: http://www.dc-dc.com/
footprint NPNMXSOS (DIP; 18 Round Pins (14 Absent); Row Space 20.32 mm; Pitch 2.54 mm)
pins: 1 GND (power), 2 VIN (power), 3 +V (out), 5 0V (out)

## NMXS0512U
designator U?
Isolated 5W Single Output; Note: Pin 4 is not present.; Published: 8-Jun-2000; LatestRevisionDate: 17-Jul-2002; LatestRevisionNote: Re-released for DXP Platform.; DatasheetVersion: Jul-1996; PackageVersion: 1996; PackageReference: NPNMXUS; Publisher: Altium Limited; PackageDescription: DIP; 18 Round Pins (14 Absent); Row Space 20.32 mm; Pitch 2.54 mm; ComponentLink1Description: Manufacturer Link; ComponentLink1URL: http://www.dc-dc.com/
footprint NPNMXUS (DIP; 18 Round Pins (14 Absent); Row Space 20.32 mm; Pitch 2.54 mm)
pins: 1 GND (power), 2 VIN (power), 3 +V (out), 5 0V (out)

## NMXS0515SO
designator U?
Isolated 5W Regulated Single Output; Note: Pin 4 is not present.; Published: 8-Jun-2000; LatestRevisionDate: 17-Jul-2002; LatestRevisionNote: PCB footprint, 'DIP-P4(18)/X2' replaced; Re-released for DXP Platform.; DatasheetVersion: Jul-1996; PackageVersion: 1996; PackageReference: NPNMXSOS; Publisher: Altium Limited; PackageDescription: DIP; 18 Round Pins (14 Absent); Row Space 20.32 mm; Pitch 2.54 mm; ComponentLink1Description: Manufacturer Link; ComponentLink1URL: http://www.dc-dc.com/
footprint NPNMXSOS (DIP; 18 Round Pins (14 Absent); Row Space 20.32 mm; Pitch 2.54 mm)
pins: 1 GND (power), 2 VIN (power), 3 +V (out), 5 0V (out)

## NMXS0515U
designator U?
Isolated 5W Single Output; Note: Pin 4 is not present.; Published: 8-Jun-2000; LatestRevisionDate: 17-Jul-2002; LatestRevisionNote: Re-released for DXP Platform.; DatasheetVersion: Jul-1996; PackageVersion: 1996; PackageReference: NPNMXUS; Publisher: Altium Limited; PackageDescription: DIP; 18 Round Pins (14 Absent); Row Space 20.32 mm; Pitch 2.54 mm; ComponentLink1Description: Manufacturer Link; ComponentLink1URL: http://www.dc-dc.com/
footprint NPNMXUS (DIP; 18 Round Pins (14 Absent); Row Space 20.32 mm; Pitch 2.54 mm)
pins: 1 GND (power), 2 VIN (power), 3 +V (out), 5 0V (out)

## NMXS1205SO
designator U?
Isolated 5W Regulated Single Output; Note: Pin 4 is not present.; Published: 8-Jun-2000; LatestRevisionDate: 17-Jul-2002; LatestRevisionNote: PCB footprint, 'DIP-P4(18)/X2' replaced; Re-released for DXP Platform.; DatasheetVersion: Jul-1996; PackageVersion: 1996; PackageReference: NPNMXSOS; Publisher: Altium Limited; PackageDescription: DIP; 18 Round Pins (14 Absent); Row Space 20.32 mm; Pitch 2.54 mm; ComponentLink1Description: Manufacturer Link; ComponentLink1URL: http://www.dc-dc.com/
footprint NPNMXSOS (DIP; 18 Round Pins (14 Absent); Row Space 20.32 mm; Pitch 2.54 mm)
pins: 1 GND (power), 2 VIN (power), 3 +V (out), 5 0V (out)

## NMXS1205U
designator U?
Isolated 5W Single Output; Note: Pin 4 is not present.; Published: 8-Jun-2000; LatestRevisionDate: 17-Jul-2002; LatestRevisionNote: Re-released for DXP Platform.; DatasheetVersion: Jul-1996; PackageVersion: 1996; PackageReference: NPNMXUS; Publisher: Altium Limited; PackageDescription: DIP; 18 Round Pins (14 Absent); Row Space 20.32 mm; Pitch 2.54 mm; ComponentLink1Description: Manufacturer Link; ComponentLink1URL: http://www.dc-dc.com/
footprint NPNMXUS (DIP; 18 Round Pins (14 Absent); Row Space 20.32 mm; Pitch 2.54 mm)
pins: 1 GND (power), 2 VIN (power), 3 +V (out), 5 0V (out)

## NMXS1212SO
designator U?
Isolated 5W Regulated Single Output; Note: Pin 4 is not present.; Published: 8-Jun-2000; LatestRevisionDate: 17-Jul-2002; LatestRevisionNote: PCB footprint, 'DIP-P4(18)/X2' replaced; Re-released for DXP Platform.; DatasheetVersion: Jul-1996; PackageVersion: 1996; PackageReference: NPNMXSOS; Publisher: Altium Limited; PackageDescription: DIP; 18 Round Pins (14 Absent); Row Space 20.32 mm; Pitch 2.54 mm; ComponentLink1Description: Manufacturer Link; ComponentLink1URL: http://www.dc-dc.com/
footprint NPNMXSOS (DIP; 18 Round Pins (14 Absent); Row Space 20.32 mm; Pitch 2.54 mm)
pins: 1 GND (power), 2 VIN (power), 3 +V (out), 5 0V (out)

## NMXS1212U
designator U?
Isolated 5W Single Output; Note: Pin 4 is not present.; Published: 8-Jun-2000; LatestRevisionDate: 17-Jul-2002; LatestRevisionNote: Re-released for DXP Platform.; DatasheetVersion: Jul-1996; PackageVersion: 1996; PackageReference: NPNMXUS; Publisher: Altium Limited; PackageDescription: DIP; 18 Round Pins (14 Absent); Row Space 20.32 mm; Pitch 2.54 mm; ComponentLink1Description: Manufacturer Link; ComponentLink1URL: http://www.dc-dc.com/
footprint NPNMXUS (DIP; 18 Round Pins (14 Absent); Row Space 20.32 mm; Pitch 2.54 mm)
pins: 1 GND (power), 2 VIN (power), 3 +V (out), 5 0V (out)

## NMXS1215SO
designator U?
Isolated 5W Regulated Single Output; Note: Pin 4 is not present.; Published: 8-Jun-2000; LatestRevisionDate: 17-Jul-2002; LatestRevisionNote: PCB footprint, 'DIP-P4(18)/X2' replaced; Re-released for DXP Platform.; DatasheetVersion: Jul-1996; PackageVersion: 1996; PackageReference: NPNMXSOS; Publisher: Altium Limited; PackageDescription: DIP; 18 Round Pins (14 Absent); Row Space 20.32 mm; Pitch 2.54 mm; ComponentLink1Description: Manufacturer Link; ComponentLink1URL: http://www.dc-dc.com/
footprint NPNMXSOS (DIP; 18 Round Pins (14 Absent); Row Space 20.32 mm; Pitch 2.54 mm)
pins: 1 GND (power), 2 VIN (power), 3 +V (out), 5 0V (out)

## NMXS1215U
designator U?
Isolated 5W Single Output; Note: Pin 4 is not present.; Published: 8-Jun-2000; LatestRevisionDate: 17-Jul-2002; LatestRevisionNote: Re-released for DXP Platform.; DatasheetVersion: Jul-1996; PackageVersion: 1996; PackageReference: NPNMXUS; Publisher: Altium Limited; PackageDescription: DIP; 18 Round Pins (14 Absent); Row Space 20.32 mm; Pitch 2.54 mm; ComponentLink1Description: Manufacturer Link; ComponentLink1URL: http://www.dc-dc.com/
footprint NPNMXUS (DIP; 18 Round Pins (14 Absent); Row Space 20.32 mm; Pitch 2.54 mm)
pins: 1 GND (power), 2 VIN (power), 3 +V (out), 5 0V (out)